# Altium schematic symbol library TSW-103-22-G-S.SchLib: 1 symbol
Pins are listed as number, name and electrical type; pins without a type are passive.

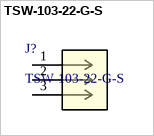
[diagram p0: symbol TSW-103-22-G-S]

## TSW-103-22-G-S
designator J?
No Description Available; Manufacturer_Name: Samtec Inc; Copyright: Copyright (C) 2026 Ultra Librarian. All rights reserved.; Manufacturer_Part_Number: TSW-103-22-G-S; RefDes: RefDes; Type: Type
footprint CON3_1X3_TU_TSW
pins: 1, 2, 3